# Altium schematic symbol library project_x_sch_library.SchLib: 37 symbols (part 1 of 2)
Pins are listed as number, name and electrical type; pins without a type are passive.

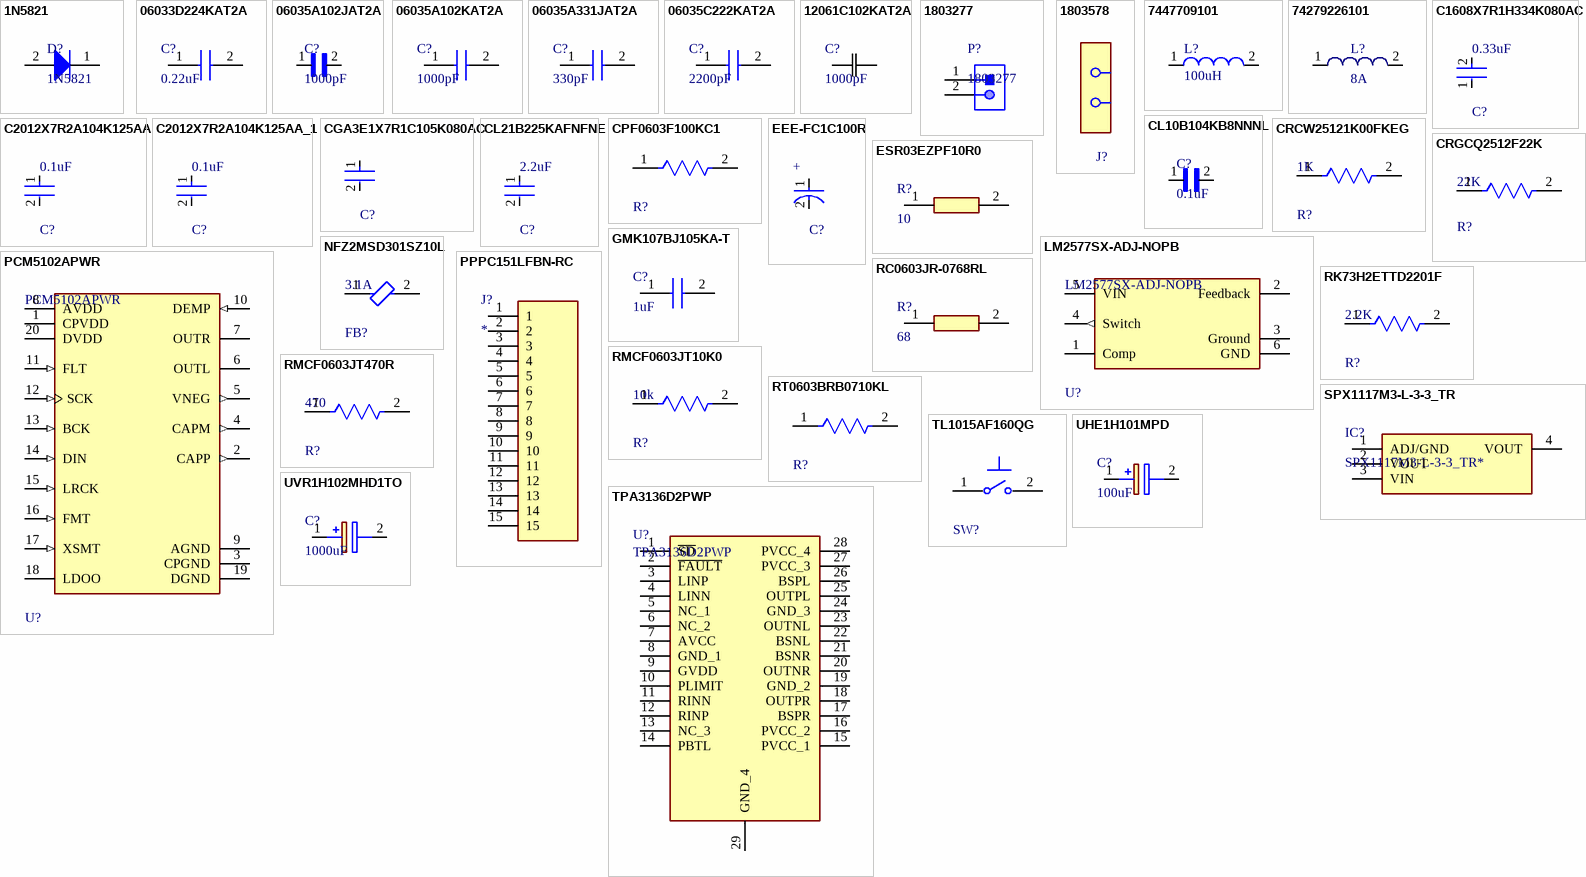
[diagram p0: symbols 1N5821 to UVR1H102MHD1TO]

## 1N5821
designator D?
Diode Schottky 30V 3A Through Hole DO-201AD; Manufacturer: On Semiconductor; Note1: 0; IFSM Max (A): 80; Packing: Bulk Bag; Configuration: Single; Max Reverse Current: 500uA; Max Surge Current: 80A; Forward Voltage: 500mV; Polarity: Standard; Capacitance: 190pF; Max Reverse Leakage Current: 2mA; ComponentLink1Description: Manufacturer URL; ComponentLink2Description: Datasheet; PartNumber: 1N5821; DatasheetVersion: Rev. 10; Mounting Technology: Through Hole; ComponentLink3URL: http://www.onsemi.com/pub_link/Collateral/267-05.PDF; ComponentLink3Description: Package Specification; ComponentLink1URL: http://www.onsemi.com/; PackageVersion: Rev. G, 06/2000; PackageDescription: 2-Pin, Axial Lead, Diameter 5.05 mm; ComponentLink2URL: http://www.onsemi.cn/pub_link/Collateral/1N5820-D.PDF; RoHS: FALSE; PackageReference: AXIAL_LEAD-2-267-05; Supplier 1: Digi-Key; Manufacturer Part Number: 1N5821; Category: Schottky Diodes; Stock 1: 982; Pricing 1: 1=0.63000, 10=0.53800, 100=0.40150, 500=0.31548 (USD); Mount: Through Hole; Case/Package: DO-201AD; Number of Pins: 2; Weight: 0.36g; Contact Plating: Tin,Matte; Min Operating Temperature: -65°C; Max Operating Temperature: 125°C; Packaging: Tape and Reel; Package Quantity: 1250; Average Rectified Current: 3A; Max Repetitive Reverse Voltage (Vrrm): 30V; Forward Current: 3A; Max Forward Surge Current (Ifsm): 80A; Peak Non-Repetitive Surge Current: 80A; Element Configuration: Single; Voltage Rating (DC): 30V; Current Rating: 3A; Output Current: 3A; Max Reverse Voltage (DC): 30V; Series: -; Diameter: 5.6mm; Length: 9.5mm; Width: 5.3mm; Height: 9.5mm; Radiation Hardening: No; RoHS Compliant: Yes; REACH SVHC: No SVHC; Lead Free: Lead Free; ComponentLink4URL: https://datasheet.ciiva.com/8302/1n5821-8302768.pdf?src-supplier=Avnet; ComponentLink4Description: https://datasheet.ciiva.com/8302/1n5821-8302768.pdf?src-supplier=Avnet; ComponentLink5URL: https://datasheet.ciiva.com/29592/1n5820-29592498.pdf?src-supplier=Digi-Key; ComponentLink5Description: https://datasheet.ciiva.com/29592/1n5820-29592498.pdf?src-supplier=Digi-Key; ComponentLink6URL: https://datasheet.ciiva.com/25951/1n5821-25951357.pdf?src-supplier=Avnet+Europe; ComponentLink6Description: https://datasheet.ciiva.com/25951/1n5821-25951357.pdf?src-supplier=Avnet+Europe; ComponentLink7URL: https://datasheet.ciiva.com/1177/107972-1177095.pdf?src-supplier=Element14; ComponentLink7Description: https://datasheet.ciiva.com/1177/107972-1177095.pdf?src-supplier=Element14; Supplier 2: Digi-Key; Stock 2: 378; Pricing 2: 1=0.63000, 10=0.53800, 100=0.40150 (USD); Supplier Part Number 1: 1990-1N5821CT-ND; Supplier Part Number 2: 1N5821FSCT-ND
footprint ONSC-AXIAL_LEAD-2-267-05_V (AXIAL, 2-Leads, Diameter 5.05mm)
pins: 1 K, 2 A

## 06033D224KAT2A
designator C?, comment 0.22uF
CAP CER 0.22UF 25V X5R 0603; Manufacturer_Name: AVX; Manufacturer_Part_Number: 06033D224KAT2A; Datasheet Link: http://docs-emea.rs-online.com/webdocs/0def/0900766b80def1a5.pdf; Height: 0.9mm; Mouser Part Number: 581-06033D224K; Mouser Price/Stock: https://www.mouser.co.uk/ProductDetail/AVX/06033D224KAT2A/?qs=yuhjMS%2FIYxbJrex57OiWTw%3D%3D; Arrow Part Number: 06033D224KAT2A; Arrow Price/Stock: https://www.arrow.com/en/products/06033d224kat2a/avx; Supplier 1: Digi-Key; Supplier 2: Digi-Key; Supplier Part Number 1: 478-1245-1-ND; Supplier Part Number 2: 478-1245-6-ND
footprint CAPC1608X90N
pins: 1, 2

## 06035A102JAT2A
designator C?, comment 1000pF
1000pF ±5% 50V Ceramic Capacitor C0G, NP0 0603 (1608 Metric); MP: 06035A102JAT2A; Package: None; Price: None; Value: *; Availability: Unavailable; Supplier 1: Digi-Key; Supplier 2: Digi-Key; Supplier 3: Digi-Key; Supplier 4: Newark; Supplier Part Number 3: 478-1187-2-ND; Supplier Part Number 4: 92C3552; Supplier Part Number 2: 478-1187-6-ND; Supplier Part Number 1: 478-1187-1-ND
footprint CAPC1608X90N
pins: 1, 2

## 06035A102KAT2A
designator C?, comment 1000pF
CAP CER 1000PF 50V C0G/NP0 0603; Manufacturer_Name: AVX; Manufacturer_Part_Number: 06035A102KAT2A; Datasheet Link: http://www.mouser.com/catalog/supplier/library/pdf/AVXSurfaceMountCeramic.pdf; Height: 0.9mm; Mouser Part Number: 581-06035A102KAT2A; Mouser Price/Stock: https://www.mouser.co.uk/ProductDetail/AVX/06035A102KAT2A/?qs=I5rfTV0A4wH27QeFGHRn6w%3D%3D; Arrow Part Number: 06035A102KAT2A; Arrow Price/Stock: https://www.arrow.com/en/products/06035a102kat2a/avx; Supplier 1: Digi-Key; Supplier Part Number 1: 478-3718-1-ND
footprint CAPC1608X90N
pins: 1, 2

## 06035A331JAT2A
designator C?, comment 330pF
CAP CER 330PF 50V C0G/NP0 0603; Manufacturer_Name: AVX; Manufacturer_Part_Number: 06035A331JAT2A; Datasheet Link: http://datasheets.avx.com/C0GNP0-Dielectric.pdf; Height: 0.9mm; Mouser Part Number: 581-06035A331J; Mouser Price/Stock: https://www.mouser.co.uk/ProductDetail/AVX/06035A331JAT2A?qs=nHLfGqofz%252BCe6DSmi7JEiw%3D%3D; Supplier 1: Digi-Key; Supplier Part Number 1: 478-1181-1-ND
footprint CAPC1608X90N
pins: 1, 2

## 06035C222KAT2A
designator C?, comment 2200pF
CAP CER 2200PF 50V X7R 0603; Manufacturer: Kyocera AVX; Manufacturer Part Number: 06035C222KAT2A; Dielectric Material: Ceramic; Capacitance: 2.2nF; Tolerance: 10%; Voltage: 25V; Dissipation Factor: 2.5%; Supplier 1: Digi-Key; RoHS: Yes; Category: Ceramic Capacitors; Stock 1: 123694; Pricing 1: 1=0.10000, 10=0.07000, 50=0.03800, 100=0.03100, 500=0.02214, 1000=0.01739 (USD); Mount: Surface Mount; Case/Package: 0603; Number of Pins: 2; Case Code (Metric): 1608; Case Code (Imperial): 0603; Contact Plating: Tin,Matte; Min Operating Temperature: -55°C; Max Operating Temperature: 125°C; Voltage Rating (DC): 50V; Packaging: Tape and Reel; Dielectric: X7R; Voltage Rating: 50V; Package Quantity: 1; Termination: SMD/SMT; Series: -; Construction: Flat; Length: 1.6mm; Width: 0.032inch; Height: 0.9mm; Depth: 0.81mm; Thickness: 0.035inch; Radiation Hardening: No; REACH SVHC: No SVHC; Lead Free: Lead Free; RoHS Compliant: Yes; ComponentLink1URL: https://datasheet.ciiva.com/11788/0900766b802d4698-11788065.pdf?src-supplier=RSComponents; ComponentLink1Description: https://datasheet.ciiva.com/11788/0900766b802d4698-11788065.pdf?src-supplier=RSComponents; ComponentLink2URL: https://datasheet.ciiva.com/160/cx7r-160968.pdf?src-supplier=Digi-Key; ComponentLink2Description: https://datasheet.ciiva.com/160/cx7r-160968.pdf?src-supplier=Digi-Key; ComponentLink3URL: https://datasheet.ciiva.com/160/cx7r-160969.pdf?src-supplier=Digi-Key; ComponentLink3Description: https://datasheet.ciiva.com/160/cx7r-160969.pdf?src-supplier=Digi-Key; ComponentLink4URL: https://datasheet.ciiva.com/160/cx7r-160970.pdf?src-supplier=Digi-Key; ComponentLink4Description: https://datasheet.ciiva.com/160/cx7r-160970.pdf?src-supplier=Digi-Key; ComponentLink5URL: https://datasheet.ciiva.com/5415/cx7r-218113-5415163.pdf?src-supplier=Mouser; ComponentLink5Description: https://datasheet.ciiva.com/5415/cx7r-218113-5415163.pdf?src-supplier=Mouser; ComponentLink6URL: https://datasheet.ciiva.com/2987/cx7r-2987841.pdf?src-supplier=Avnet; ComponentLink6Description: https://datasheet.ciiva.com/2987/cx7r-2987841.pdf?src-supplier=Avnet; ComponentLink7URL: https://datasheet.ciiva.com/28546/cx7r-28546597.pdf?src-supplier=Element14; ComponentLink7Description: https://datasheet.ciiva.com/28546/cx7r-28546597.pdf?src-supplier=Element14; ComponentLink8URL: https://datasheet.ciiva.com/1457/1679506-1457930.pdf?src-supplier=Element14; ComponentLink8Description: https://datasheet.ciiva.com/1457/1679506-1457930.pdf?src-supplier=Element14; ComponentLink9URL: https://datasheet.ciiva.com/1457/1679506-1457931.pdf?src-supplier=Element14; ComponentLink9Description: https://datasheet.ciiva.com/1457/1679506-1457931.pdf?src-supplier=Element14; Supplier Part Number 1: 478-1219-1-ND
footprint CAPC1608X90N
pins: 1, 2

## 12061C102KAT2A
designator C?, comment 1000pF
CAP CER 1000PF 100V X7R 1206; Manufacturer_Part_Number: 12061C102KAT2A; Vendor: AVX Corporation; Built_By: EMA_UL_Team; SourceLibrary: AVX_2015-1-12; Type: DEV; Copyright: Copyright (C) 2018 Accelerated Designs. All rights reserved; RefDes: RefDes; Supplier 1: Digi-Key; Supplier Part Number 1: 478-1517-1-ND
footprint CAPC3216X94N
pins: 1 11, 2 12

## 1803277
designator P?
Conn;  TermBlk;  PCB;  Header;  SnglLvl;  90DegAngl;  Sldr;  2Pole;  3.81mmPitch;  COMBICON; Manufacturer: Phoenix Contact; Tolerance: 5%; Elements: 4; Voltage Rating: 50 V; Case\Package: 1205; Resistance: 10 kohm; Power Rating: 248 mW; Max Current Rating: 8A; Number of Contacts: 2; Gender: Male; Number of Levels: 1; Voltage: 300V; Connector Type: Plug,PCB,Terminal Block; Voltage Rating (DC): 640mV; Voltage Rating (AC): 160V; Pitch: 3.81mm; Approvals: UL,CSA; RoHSCompliant: true; Min Operating Temperature: -55 degC; Case Code (Imperial): 1206; Width: 0.063 inch; Pins: 8; ComponentLink1Description: Manufacturer URL; ComponentLink2Description: Datasheet; DatasheetVersion: Feb-14; ComponentLink3URL: https://www.phoenixcontact.com/online/portal/us/pxc/product_detail_page/!ut/p/b1/3ZfJkqM4EIafpR6AQmA2H9n3fTNcCLbCgDGrDfjpp6pmYg4T012XDh-MLkihiC__TGUqBcdwBKEIwNDDAScAfILja3qvq3Sp-2t6-ZrHROIxHs9bKIGYNs4AmcNZXsMcRDJQOIRPAEvchpoUjx1UTZ38Zl8Xbz54zDr6CpsNzjayIR3; ComponentLink1URL: http://www.phoenixcontact.com/; ComponentLink2URL: https://datasheet.ciiva.com/16096/1803277-16096845.pdf; PackageReference: 1803277; ComponentLink3Description: Package Specification; Mount: Surface Mount; Length: 0.126 inch; REACH SVHC: No SVHC; Radiation Hardening: No; Max Operating Temperature: 125 degC; Package Quantity: 1; Height: 0.024 inch; Packaging: Cut Tape; PackageDescription: Male Header, Pitch 3.81 mm, 1 x 2 Position, Height 7.25 mm, Tail Length 3.4 mm; Case Code (Metric): 3216; PartNumber: 1803277; Supplier 1: Digi-Key; Supplier 2: Newark; Supplier 3: Allied Electronics; Supplier 4: Mouser; Supplier 5: Arrow Electronics; Supplier Part Number 1: 277-1206-ND; Supplier Part Number 2: 80R8083; Supplier Part Number 3: 70054540; Supplier Part Number 4: 651-1803277; Supplier Part Number 5: 1803277; Manufacturer Part Number: 1803277; RoHS: Yes; Category: Terminal Blocks; Stock 1: 15554; Pricing 1: 1=0.83000, 10=0.79400, 50=0.75900, 100=0.73830, 250=0.69000, 500=0.63480, 1000=0.58650, 2500=0.55890, 5000=0.52440 (USD); Contact Plating: Tin; Housing Color: Green; Housing Material: Polybutylene; Contact Material: Tin; Color: Green; Weight: 4oz; Number of Rows: 1; Termination: Solder; Orientation: Right Angle; Number of Poles: 2; Current Rating: 8A; Number of Positions Per Level: 2; Current: 8A; Number of Positions: 2; Series: MC; Contact Gender: Male; Depth: 9.2mm; Lead Free: Lead Free; RoHS Compliant: Yes; Flammability Rating: UL94 V-0; ComponentLink4URL: https://datasheet.ciiva.com/795/1803277-795413.pdf?src-supplier=Digi-Key; ComponentLink4Description: https://datasheet.ciiva.com/795/1803277-795413.pdf?src-supplier=Digi-Key; ComponentLink5URL: https://datasheet.ciiva.com/11746/0900766b80029ea6-11746612.pdf?src-supplier=RSComponents; ComponentLink5Description: https://datasheet.ciiva.com/11746/0900766b80029ea6-11746612.pdf?src-supplier=RSComponents; ComponentLink6URL: https://datasheet.ciiva.com/16096/1803277-16096845.pdf?src-supplier=Onlinecomponents.com; ComponentLink6Description: https://datasheet.ciiva.com/16096/1803277-16096845.pdf?src-supplier=Onlinecomponents.com; ComponentLink7URL: https://datasheet.ciiva.com/23596/1581611-23596276.pdf?src-supplier=Newark; ComponentLink7Description: https://datasheet.ciiva.com/23596/1581611-23596276.pdf?src-supplier=Newark; ComponentLink8URL: https://datasheet.ciiva.com/26840/getdatasheetpartid-233794-26840495.pdf?src-supplier=Verical; ComponentLink8Description: https://datasheet.ciiva.com/26840/getdatasheetpartid-233794-26840495.pdf?src-supplier=Verical; ComponentLink9URL: https://datasheet.ciiva.com/29212/740533-da-01-de-leiterplattenstecker-mc-1-5-2-g-3-81-29212066.pdf?src-supplier=Conrad; ComponentLink9Description: https://datasheet.ciiva.com/29212/740533-da-01-de-leiterplattenstecker-mc-1-5-2-g-3-81-29212066.pdf?src-supplier=Conrad
footprint PHOE-1803277_V (CONN, Body 9.2x9.01mm, Pitch 3.81mm)
pins: 1, 2

## 1803578
designator J?, comment Plug  (value not drawn)
MC 1 5/ 2-ST-3 81; Manufacturer: Phoenix Contact; Manufacturer Part Number: 1803578; Number of Positions: 2; Current Rating: 8A; Gender: Male; Voltage Rating (AC): 160V; Connector Type: Screw,Power,Rectangular; Number of Levels: 1; Voltage: 300V; Pitch: 3.81mm; Wire Gauge (Max): 30AWG; Wire Gauge (Min): 14AWG; Wire/Cable Gauge: 16AWG; Stripping Length: 7mm; Approvals: UL,CSA,VDE; Supplier 1: Digi-Key; Supplier 2: Newark; Supplier 3: Mouser; Supplier 4: Allied Electronics; Supplier 5: Arrow Electronics; Supplier Part Number 1: 277-1161-ND; Supplier Part Number 2: 71C4221; Supplier Part Number 3: 651-1803578; Supplier Part Number 4: 70054750; Supplier Part Number 5: 1803578; RoHS: Yes; Category: Terminal Blocks; Stock 1: 25508; Pricing 1: 1=2.40000, 10=2.30000, 50=2.20000, 100=2.14000, 250=2.00000, 500=1.84000, 1000=1.70001, 2500=1.62000, 5000=1.52000 (USD); Mount: Free Hanging,Cable; Contact Material: Tin; Contact Plating: Tin; Housing Color: Green; Housing Material: Polyamide; Color: Green; Weight: 3.456848oz; Insulation Material: Nylon; Package Quantity: 50; Packaging: Bulk; Termination: Screw; Orientation: Right Angle; Number of Poles: 2; Number of Rows: 1; Max Current Rating: 8A; Number of Contacts: 2; Series: MC; Voltage Rating: 160V; Number of Positions Per Level: 2; Current: 8A; Max Supply Voltage: 160V; Number of Circuits: 2; Voltage Rating (DC): 160V; Length: 8.41mm; Width: 16.1mm; Height: 11.1mm; Depth: 16.1mm; Radiation Hardening: No; Lead Free: Lead Free; REACH SVHC: No SVHC; Flammability Rating: UL94 V-0; ComponentLink1URL: https://datasheet.ciiva.com/795/1803578-795460.pdf?src-supplier=Digi-Key; ComponentLink1Description: https://datasheet.ciiva.com/795/1803578-795460.pdf?src-supplier=Digi-Key; ComponentLink2URL: https://datasheet.ciiva.com/16046/1803578-16046760.pdf?src-supplier=Onlinecomponents.com; ComponentLink2Description: https://datasheet.ciiva.com/16046/1803578-16046760.pdf?src-supplier=Onlinecomponents.com; ComponentLink3URL: https://datasheet.ciiva.com/29224/740200-da-01-en-leiterplattenstecker-mc-1-5-2-st-3-81-29224613.pdf?src-supplier=Conrad; ComponentLink3Description: https://datasheet.ciiva.com/29224/740200-da-01-en-leiterplattenstecker-mc-1-5-2-st-3-81-29224613.pdf?src-supplier=Conrad
footprint Phoenix_Contact_0_MFG

## 7447709101
designator L?, comment 100uH
WURTH ELEKTRONIK - 7447709101 - Power Inductor (SMD), 100 µH, 2.5 A, Shielded, 3.1 A, WE-PD Series, 12mm x 12mm x 10mm; Manufacturer: Wurth Electronics; Inductance: 100 ÂµH; Core Material: Ferrite; Tolerance: 20%; Self Resonant Frequency: 6MHz; Current Rating: 2.5A; Saturation Current: 3.1A; Resistance: 110mR; Test Frequency: 1kHz; Impedance: 100mR; ComponentLink1Description: Manufacturer Link; ComponentLink2Description: Datasheet; DatasheetVersion: ver 1, Oct-2004; ComponentLink1URL: http://www.we-online.com; PackageVersion: 2004; PackageDescription: SMD Inductor, 2-Leads, Body 12.0 x 12.0 mm; ComponentLink2URL: http://www.we-online.de/katalog/media/pdf/7447709101.pdf; PackageReference: WE-PD-XXL; PartNumber: 7447709101; Supplier 1: Digi-Key; Manufacturer Part Number: 7447709101; RoHS: Yes; Category: Fixed Inductors; Stock 1: 22437; Pricing 1: 1=2.41000, 10=2.20000, 50=2.07000, 100=1.94000 (USD); Mount: Surface Mount; Case/Package: Nonstandard; Number of Pins: 2; Weight: 0.01lb; Case Code (Metric): 3225; Case Code (Imperial): 1210; Min Operating Temperature: -40°C; Max Operating Temperature: 125°C; Inductance Tolerance: 20%; Packaging: Tape and Reel; Shielding: Shielded; Package Quantity: 250; Max DC Current: 2.5A; DC Resistance (DCR): 110mR; Termination: SMD/SMT; Resistor Type: Wirewound; DC Current: 2.5A; RMS Current (Irms): 2.5A; Series Resistance: 110mR; Series: WE-PD; Inductor Type: POWER; Length: 12mm; Width: 12mm; Height: 10mm; Height - Seated (Max): 0.394inch; Depth: 12.5mm; Size: 10mm; REACH SVHC: Unknown; Military Standard: Not; RoHS Compliant: Yes; Lead Free: Lead Free; ComponentLink3URL: https://datasheet.ciiva.com/4954/7447709101-44073-4954756.pdf?src-supplier=Mouser; ComponentLink3Description: https://datasheet.ciiva.com/4954/7447709101-44073-4954756.pdf?src-supplier=Mouser; ComponentLink4URL: https://datasheet.ciiva.com/22709/1736294-22709761.pdf?src-supplier=Element14; ComponentLink4Description: https://datasheet.ciiva.com/22709/1736294-22709761.pdf?src-supplier=Element14; ComponentLink5URL: https://datasheet.ciiva.com/11800/0900766b8079f802-11800213.pdf?src-supplier=RSComponents; ComponentLink5Description: https://datasheet.ciiva.com/11800/0900766b8079f802-11800213.pdf?src-supplier=RSComponents; ComponentLink6URL: https://datasheet.ciiva.com/6983/7447709101-6983170.pdf?src-supplier=Newark; ComponentLink6Description: https://datasheet.ciiva.com/6983/7447709101-6983170.pdf?src-supplier=Newark; ComponentLink7URL: https://datasheet.ciiva.com/1052/7447709101-1052454.pdf?src-supplier=Digi-Key; ComponentLink7Description: https://datasheet.ciiva.com/1052/7447709101-1052454.pdf?src-supplier=Digi-Key; ComponentLink8URL: https://datasheet.ciiva.com/7754/1736294-7754651.pdf?src-supplier=Element14; ComponentLink8Description: https://datasheet.ciiva.com/7754/1736294-7754651.pdf?src-supplier=Element14; Supplier Part Number 1: 732-1248-1-ND
footprint WE-PD-XXL (SMD Inductor, 2-Leads, Body 12.0 x 12.0 mm)
pins: 1, 2

## 74279226101
designator L?, comment 8A
100 Ohms @ 100MHz 1  Ferrite Bead 1812 (4532 Metric) 8A 6mOhm; PartNumber: 74279226101; Manufacturer: Wuerth Elektronik; Impedance: 100 Ohm; ComponentLink1Description: Manufacturer URL; ComponentLink2Description: Datasheet; ComponentLink1URL: http://www.we-online.com; ComponentLink2URL: http://katalog.we-online.com/pbs/datasheet/74279226101.pdf; PackageReference: WE-MPSB-1812; Supplier 1: Digi-Key; Supplier 2: Digi-Key; Supplier 3: Newark; Supplier 4: Mouser; Supplier 5: RSComponents; Supplier Part Number 1: 732-3431-1-ND; Supplier Part Number 2: 732-3431-6-ND; Supplier Part Number 3: 74T0824; Supplier Part Number 4: 710-74279226101; Supplier Part Number 5: 7498328
footprint WE-MPSB-1812 (Chip Inductor, 2-Leads, Body 4.5x3.2mm, IPC Medium Density)
pins: 1, 2

## C1608X7R1H334K080AC
designator C?, comment 0.33uF
Cap Ceramic 0.33uF 50V X7R 10% Pad SMD 0603 125°C Low ESR T/R; Manufacturer: TDK; Manufacturer Part Number: C1608X7R1H334K080AC; Capacitance: 330nF; Supplier 1: Digi-Key; RoHS: Yes; Category: Ceramic Capacitors; Stock 1: 247635; Pricing 1: 1=0.25000, 10=0.17200, 50=0.11500, 100=0.09780, 500=0.06900, 1000=0.06038 (USD); Mount: Surface Mount; Case/Package: 0603; Case Code (Metric): 1608; Case Code (Imperial): 0603; Dielectric Material: Ceramic; Weight: 7.1E-05oz; Min Operating Temperature: -55°C; Max Operating Temperature: 125°C; Tolerance: 10%; Voltage Rating: 50V; Packaging: Tape and Reel; Voltage Rating (DC): 50V; Dielectric: X7R; Termination: SMD/SMT; Construction: Flat; Package Quantity: 1; Resistor Type: Ceramic; Voltage: 50V; Series: C; Length: 1.6mm; Width: 0.031inch; Height: 0.8mm; Depth: 0.8mm; Thickness: 0.037inch; Lead Free: Lead Free; RoHS Compliant: Yes; REACH SVHC: No SVHC; ComponentLink1URL: https://datasheet.ciiva.com/6290/tdkmlcccaprange-6290782.pdf?src-supplier=Digi-Key; ComponentLink1Description: https://datasheet.ciiva.com/6290/tdkmlcccaprange-6290782.pdf?src-supplier=Digi-Key; ComponentLink2URL: https://datasheet.ciiva.com/6290/tdkmlcccaprange-6290791.pdf?src-supplier=Digi-Key; ComponentLink2Description: https://datasheet.ciiva.com/6290/tdkmlcccaprange-6290791.pdf?src-supplier=Digi-Key; ComponentLink3URL: https://datasheet.ciiva.com/22718/1796654-22718021.pdf?src-supplier=Element14; ComponentLink3Description: https://datasheet.ciiva.com/22718/1796654-22718021.pdf?src-supplier=Element14; ComponentLink4URL: https://datasheet.ciiva.com/16427/general-b11-16427753.pdf?src-supplier=Future+Electronics; ComponentLink4Description: https://datasheet.ciiva.com/16427/general-b11-16427753.pdf?src-supplier=Future+Electronics; ComponentLink5URL: https://datasheet.ciiva.com/23803/1735394-23803004.pdf?src-supplier=Newark; ComponentLink5Description: https://datasheet.ciiva.com/23803/1735394-23803004.pdf?src-supplier=Newark; ComponentLink6URL: https://datasheet.ciiva.com/28451/1796654-28451356.pdf?src-supplier=Element14; ComponentLink6Description: https://datasheet.ciiva.com/28451/1796654-28451356.pdf?src-supplier=Element14; Supplier 2: Digi-Key; Stock 2: 247635; Pricing 2: 1=0.25000, 10=0.17200, 50=0.11500, 100=0.09780, 500=0.06900, 1000=0.06038 (USD); Supplier Part Number 1: 445-5950-1-ND; Supplier Part Number 2: 445-5950-6-ND
footprint TDK_C1608-080-0_1_IPC_B
pins: 1, 2

## C2012X7R2A104K125AA
designator C?, comment 0.1uF
C Series 0805 0.1 uF 100 V ±10 % Tolerance X7R SMT Multilayer Ceramic Capacitor; Manufacturer: TDK; Manufacturer Part Number: C2012X7R2A104K; Capacitance: 100nF; Tolerance: 10%; Voltage Rating: 100V; Supplier 1: Digi-Key; RoHS: Yes; Category: Ceramic Capacitors; Stock 1: 559939; Pricing 1: 1=0.19000, 10=0.12900, 50=0.07760, 100=0.06560, 500=0.04484, 1000=0.03968 (USD); Mount: Surface Mount; Case/Package: 0805; Number of Pins: 2; Case Code (Imperial): 0805; Case Code (Metric): 2012; Min Operating Temperature: -55°C; Max Operating Temperature: 125°C; Packaging: Tape and Reel; Package Quantity: 2000; Dielectric: X7R; Termination: SMD/SMT; Construction: Flat; Length: 2mm; Depth: 1.25mm; Radiation Hardening: No; REACH SVHC: No SVHC; ComponentLink1URL: https://datasheet.ciiva.com/3777/351print-detail-pdf-phplangenpart-noc2012x7r2a104k125aaimp-unit-xmhz-3777221.pdf?src-supplier=Arrow+Electronics; ComponentLink1Description: https://datasheet.ciiva.com/3777/351print-detail-pdf-phplangenpart-noc2012x7r2a104k125aaimp-unit-xmhz-3777221.pdf?src-supplier=Arrow+Electronics; ComponentLink2URL: https://datasheet.ciiva.com/15192/getdatasheetpartid-149415-15192179.pdf?src-supplier=Verical; ComponentLink2Description: https://datasheet.ciiva.com/15192/getdatasheetpartid-149415-15192179.pdf?src-supplier=Verical; ComponentLink3URL: https://datasheet.ciiva.com/15918/517print-detail-pdf-phplangenpart-noc2012x7r2a104k125aaimp-unit-xmhz-15918629.pdf?src-supplier=Onlinecomponents.com; ComponentLink3Description: https://datasheet.ciiva.com/15918/517print-detail-pdf-phplangenpart-noc2012x7r2a104k125aaimp-unit-xmhz-15918629.pdf?src-supplier=Onlinecomponents.com; Supplier Part Number 1: 445-1418-1-ND
footprint TDK_C2012-125-0_2_IPC_A
pins: 1, 2

## C2012X7R2A104K125AA_1
designator C?, comment 0.1uF
C Series 0805 0.1 uF 100 V ±10 % Tolerance X7R SMT Multilayer Ceramic Capacitor; Manufacturer: TDK; Manufacturer Part Number: C2012X7R2A104K; Capacitance: 100nF; Tolerance: 10%; Voltage Rating: 100V; Supplier 1: Digi-Key; RoHS: Yes; Category: Ceramic Capacitors; Stock 1: 150680; Pricing 1: 1=0.19000, 10=0.12900, 50=0.07760, 100=0.06560, 500=0.04484, 1000=0.03968 (USD); Mount: Surface Mount; Case/Package: 0805; Number of Pins: 2; Case Code (Imperial): 0805; Case Code (Metric): 2012; Min Operating Temperature: -55°C; Max Operating Temperature: 125°C; Dielectric: X7R; Termination: SMD/SMT; Packaging: Tape and Reel; Package Quantity: 2000; Construction: Flat; Length: 2mm; Depth: 1.25mm; Radiation Hardening: No; REACH SVHC: No SVHC; ComponentLink1URL: https://datasheet.ciiva.com/3777/351print-detail-pdf-phplangenpart-noc2012x7r2a104k125aaimp-unit-xmhz-3777221.pdf?src-supplier=Arrow+Electronics; ComponentLink1Description: https://datasheet.ciiva.com/3777/351print-detail-pdf-phplangenpart-noc2012x7r2a104k125aaimp-unit-xmhz-3777221.pdf?src-supplier=Arrow+Electronics; ComponentLink2URL: https://datasheet.ciiva.com/15192/getdatasheetpartid-149415-15192179.pdf?src-supplier=Verical; ComponentLink2Description: https://datasheet.ciiva.com/15192/getdatasheetpartid-149415-15192179.pdf?src-supplier=Verical; ComponentLink3URL: https://datasheet.ciiva.com/15918/517print-detail-pdf-phplangenpart-noc2012x7r2a104k125aaimp-unit-xmhz-15918629.pdf?src-supplier=Onlinecomponents.com; ComponentLink3Description: https://datasheet.ciiva.com/15918/517print-detail-pdf-phplangenpart-noc2012x7r2a104k125aaimp-unit-xmhz-15918629.pdf?src-supplier=Onlinecomponents.com; Supplier Part Number 1: 445-1418-1-ND
footprint TDK_C2012-125-0_2_IPC_A
pins: 1, 2

## CGA3E1X7R1C105K080AC
designator C?, comment 1uF  (value not drawn)
1µF ±10% 16V Ceramic Capacitor X7R 0603 (1608 Metric); Supplier 1: Digi-Key; Supplier 2: Digi-Key; Supplier 3: Digi-Key; Supplier 4: Newark; Supplier 5: Future Electronics; Supplier Part Number 1: 445-12539-1-ND; Supplier Part Number 2: 445-12539-6-ND; Supplier Part Number 3: 445-12539-2-ND; Supplier Part Number 4: 78Y9849; Supplier Part Number 5: 9066947
footprint TDK_CGA3E-0_3-0_1_IPC_A
pins: 1, 2

## CL10B104KB8NNNL
designator C?, comment 0.1uF
CAP CER 0.1UF 50V X7R 0603; MP: CL10B104KB8NNNL; MF: Samsung Electro-Mechanics; SnapEDA_Link: https://www.snapeda.com/parts/CL10B104KB8NNNL/Samsung%20Electro-Mechanics/view-part/3598555/?ref=snap; Availability: Unavailable; Package: 0603 Samsung; Value: *; Price: None; Supplier 1: Digi-Key; Supplier 2: Digi-Key; Supplier 3: Digi-Key; Supplier 4: Arrow Electronics; Supplier Part Number 1: 1276-CL10B104KB8NNNLCT-ND; Supplier Part Number 2: 1276-CL10B104KB8NNNLDKR-ND; Supplier Part Number 3: 1276-CL10B104KB8NNNLTR-ND; Supplier Part Number 4: CL10B104KB8NNNL
footprint CAPC1608X90N
pins: 1, 2

## CL21B225KAFNFNE
designator C?, comment 2.2uF
CAP CER 2.2UF 25V X7R 0805; Manufacturer: Samsung; Manufacturer Part Number: CL21B225KAFNFNE; Tolerance: 10%; Supplier 1: Digi-Key; RoHS: Yes; Category: Ceramic Capacitors; Stock 1: 369523; Pricing 1: 1=0.22000, 10=0.15700, 50=0.08920, 100=0.07390, 500=0.05180, 1000=0.04289 (USD); Mount: Surface Mount; Case/Package: 0805; Case Code (Metric): 2012; Case Code (Imperial): 0805; Min Operating Temperature: -55°C; Max Operating Temperature: 125°C; Package Quantity: 1; Packaging: Tape and Reel; Capacitance: 2.2uF; Voltage Rating: 25V; Dielectric: X7R; Series: CL; Construction: Flat; Length: 0.079inch; Width: 0.049inch; Height: 1.25mm; Thickness: 0.053inch; Depth: 1.25mm; Radiation Hardening: No; Lead Free: Lead Free; RoHS Compliant: Yes; ComponentLink1URL: https://datasheet.ciiva.com/25798/cl21b225kafnfne-25798721.pdf?src-supplier=Digi-Key; ComponentLink1Description: https://datasheet.ciiva.com/25798/cl21b225kafnfne-25798721.pdf?src-supplier=Digi-Key; Supplier Part Number 1: 1276-2953-1-ND
footprint Samsung_CL21_IPC_A
pins: 1, 2

## CPF0603F100KC1
designator R?, comment 100K  (value not drawn)
100 kOhms ±1% 0.063W, 1/16W Chip Resistor 0603 (1608 Metric)  Thin Film; Supplier 1: Digi-Key; Supplier 2: Digi-Key; Supplier 3: Newark; Supplier 4: Newark; Supplier 5: Newark; Supplier 6: Arrow Electronics; Supplier 7: Future Electronics; Supplier Part Number 1: A102199CT-ND; Supplier Part Number 2: A102199DKR-ND; Supplier Part Number 3: 36AC5509; Supplier Part Number 4: 76AH1709; Supplier Part Number 5: 73M9673; Supplier Part Number 6: CPF0603F100KC1; Supplier Part Number 7: 9093920
footprint TE_Connectivity_CPF0603_IPC_A
pins: 1, 2

## CRCW25121K00FKEG
designator R?, comment 1K
Thick Film Surface Mnt Resistor 2512 Case 1kOhm +/-1% 1W +/-100ppm/degC; Manufacturer: Vishay Dale; Manufacturer Part Number: CRCW25121K00FKEG; Resistance: 1kR; Tolerance: 1%; Temperature Coefficient: 100ppm/°C; Voltage Rating: 500V; Supplier 1: Digi-Key; RoHS: Yes; Category: Chip SMD Resistors; Stock 1: 105568; Pricing 1: 1=0.39000, 10=0.33200, 100=0.12980, 1000=0.05434 (USD); Mount: Surface Mount; Case/Package: 2512; Number of Pins: 2; Contact Plating: Tin; Weight: 0.001429oz; Case Code (Imperial): 2512; Case Code (Metric): 6432; Size Code: 2512; Min Operating Temperature: -55°C; Max Operating Temperature: 155°C; Power Rating: 1W; Resistor Type: Thick Film; Packaging: Tape and Reel; Package Quantity: 10; Number of Terminations: 2; Termination: SMD/SMT; Max Power Dissipation: 1W; Voltage Rating (DC): 500V; Features: Automotive AEC-Q200; Series: CRCW; Resistance Tolerance: 1%; Construction: Rectangular; Technology: THICK FILM; Length: 6.3mm; Width: 3.15mm; Height: 0.6mm; Depth: 3.15mm; Radiation Hardening: No; REACH SVHC: Unknown; Military Standard: Not; Lead Free: Lead Free; RoHS Compliant: Yes; ComponentLink1URL: https://datasheet.ciiva.com/11812/0900766b80d98bd1-11812831.pdf?src-supplier=RSComponents; ComponentLink1Description: https://datasheet.ciiva.com/11812/0900766b80d98bd1-11812831.pdf?src-supplier=RSComponents; ComponentLink2URL: https://datasheet.ciiva.com/2500/dcrcwe3-2500463.pdf?src-supplier=Digi-Key; ComponentLink2Description: https://datasheet.ciiva.com/2500/dcrcwe3-2500463.pdf?src-supplier=Digi-Key; ComponentLink3URL: https://datasheet.ciiva.com/2500/dcrcwe3-2500461.pdf?src-supplier=Digi-Key; ComponentLink3Description: https://datasheet.ciiva.com/2500/dcrcwe3-2500461.pdf?src-supplier=Digi-Key; ComponentLink4URL: https://datasheet.ciiva.com/2500/dcrcwe3-2500462.pdf?src-supplier=Digi-Key; ComponentLink4Description: https://datasheet.ciiva.com/2500/dcrcwe3-2500462.pdf?src-supplier=Digi-Key; ComponentLink5URL: https://datasheet.ciiva.com/9109/dcrcwe3-9109959.pdf?src-supplier=Avnet; ComponentLink5Description: https://datasheet.ciiva.com/9109/dcrcwe3-9109959.pdf?src-supplier=Avnet; ComponentLink6URL: https://datasheet.ciiva.com/9109/dcrcwe3-9109961.pdf?src-supplier=Avnet; ComponentLink6Description: https://datasheet.ciiva.com/9109/dcrcwe3-9109961.pdf?src-supplier=Avnet; ComponentLink7URL: https://datasheet.ciiva.com/5548/dcrcwe3-109170-5548217.pdf?src-supplier=Mouser; ComponentLink7Description: https://datasheet.ciiva.com/5548/dcrcwe3-109170-5548217.pdf?src-supplier=Mouser; ComponentLink8URL: https://datasheet.ciiva.com/17204/dcrcwe3-17204422.pdf?src-supplier=Avnet+Europe; ComponentLink8Description: https://datasheet.ciiva.com/17204/dcrcwe3-17204422.pdf?src-supplier=Avnet+Europe; Supplier Part Number 1: 541-1.00KAFCT-ND
footprint Vishay_CRCW2512-e3_IPC_A
pins: 1, 2

## CRGCQ2512F22K
designator R?, comment 22K
22 kOhms ±1% 1W Chip Resistor 2512 (6432 Metric) Automotive AEC-Q200, Moisture Resistant Thick Film; Manufacturer: TE Connectivity; Manufacturer Part Number: CRGCQ2512F22K; Supplier 1: Digi-Key; RoHS: Yes; Stock 1: 33852; Pricing 1: 1=0.46000, 10=0.35000, 100=0.14710, 1000=0.08118 (USD); RoHS Compliant: Yes; Supplier Part Number 1: A130009CT-ND
footprint TE_Connectivity_CRGCQ2512_IPC_A
pins: 1, 2

## EEE-FC1C100R
designator C?, comment 10uF  (value not drawn)
Cap Aluminum 10uF 16V 20% (4 X 5.4mm) SMD 60mA 1000 hr 105C T/R; Part Number: EEE-1CA100SR; Manufacturer: Panasonic; Manufacturer Part Number: EEE-FC1C100R; Value: 10.0µF; Material: Aluminium; Ripple Current (AC): 50mA; Impedance: 3R; Life (Hours): 1000Hour; Leakage Current: 3uA; Lead Length: 1.8mm; helpURL: https://upverter.com/upn/revision/35123ac30fb7e617/; Temperature: -40°C to +85°C; Package: CAP_SMT_4MM3_4MM3; Supplier 2: Mouser; Price: 0.105580265411; Supplier 1: Digi-Key; Supplier Part Number 2: 667-EEE-1CA100SR; Supplier Part Number 1: PCE3878CT-ND; RoHS: TRUE; Mouser Part Number: 667-EEE-1CA100SR; Tolerance: ±20%; Temperature Range High: +85°C; Digikey Description: CAP 10µF 16V Aluminum Capacitors Radial, Can - SMD 2000 Hrs @ 85°C; Digikey Part Number: PCE3878CT-ND; Lead Free: yes; Temperature Range Low: -40°C; Mounting Type: Surface Mount; Capacitance: 10.0µF; Voltage: 16V; Supplier 3: Digi-Key; Category: Aluminum Electrolytic Capacitors; Stock 3: 93767; Pricing 3: 1=0.33000, 10=0.23100, 50=0.16180, 100=0.13870, 500=0.10402, 1000=0.08784 (USD); Mount: Surface Mount,PCB; Case/Package: Radial; Number of Pins: 2; Contact Plating: Tin; Dielectric Material: Aluminium; Min Operating Temperature: -40°C; Max Operating Temperature: 105°C; Voltage Rating: 16V; Packaging: Tape and Reel; Voltage Rating (DC): 16V; ESR (Equivalent Series Resistance): 3R; Ripple Current: 60mA; Package Quantity: 1; Termination: SMD/SMT; Series: FC; Construction: Cylindrical; Diameter: 4mm; Length: 5.5mm; Width: 4.3mm; Height: 5.4mm; Height - Seated (Max): 0.213inch; Lead Pitch: 1mm; Radiation Hardening: No; REACH SVHC: No SVHC; RoHS Compliant: Yes; ComponentLink1URL: https://datasheet.ciiva.com/11779/0900766b806bc525-11779699.pdf?src-supplier=RSComponents; ComponentLink1Description: https://datasheet.ciiva.com/11779/0900766b806bc525-11779699.pdf?src-supplier=RSComponents; ComponentLink2URL: https://datasheet.ciiva.com/29313/443516-da-01-en-smd-elko-vfc-b-10-uf-16v-29313714.pdf?src-supplier=Conrad; ComponentLink2Description: https://datasheet.ciiva.com/29313/443516-da-01-en-smd-elko-vfc-b-10-uf-16v-29313714.pdf?src-supplier=Conrad; ComponentLink3URL: https://datasheet.ciiva.com/2985/aba0000ce5-2985278.pdf?src-supplier=Avnet; ComponentLink3Description: https://datasheet.ciiva.com/2985/aba0000ce5-2985278.pdf?src-supplier=Avnet; ComponentLink4URL: https://datasheet.ciiva.com/2985/aba0000ce5-2985279.pdf?src-supplier=Avnet; ComponentLink4Description: https://datasheet.ciiva.com/2985/aba0000ce5-2985279.pdf?src-supplier=Avnet; ComponentLink5URL: https://datasheet.ciiva.com/28694/31718-28694775.pdf?src-supplier=Element14; ComponentLink5Description: https://datasheet.ciiva.com/28694/31718-28694775.pdf?src-supplier=Element14; ComponentLink6URL: https://datasheet.ciiva.com/46388/31718-46388204.pdf?src-supplier=Element14; ComponentLink6Description: https://datasheet.ciiva.com/46388/31718-46388204.pdf?src-supplier=Element14; ComponentLink7URL: https://datasheet.ciiva.com/16508/aba0000ce5-16508393.pdf?src-supplier=Future+Electronics; ComponentLink7Description: https://datasheet.ciiva.com/16508/aba0000ce5-16508393.pdf?src-supplier=Future+Electronics; ComponentLink8URL: https://datasheet.ciiva.com/17353/aba0000ce5-17353355.pdf?src-supplier=Avnet+Europe; ComponentLink8Description: https://datasheet.ciiva.com/17353/aba0000ce5-17353355.pdf?src-supplier=Avnet+Europe; ComponentLink9URL: https://datasheet.ciiva.com/48542/eeefc-series-eng-tds-48542826.pdf?src-supplier=Distrelec; ComponentLink9Description: https://datasheet.ciiva.com/48542/eeefc-series-eng-tds-48542826.pdf?src-supplier=Distrelec; Supplier Part Number 3: PCE3995CT-ND
footprint Panasonic_EEE-1CA100SR_0
pins: 1 A, 2 C
text: +

## ESR03EZPF10R0
designator R?, comment 10
RES SMD 10 OHM 1% 1/4W 0603; Manufacturer_Name: ROHM Semiconductor; Manufacturer_Part_Number: ESR03EZPF10R0; Datasheet Link: https://componentsearchengine.com/Datasheets/2/ESR03EZPF10R0.pdf; Height: 0.55mm; Mouser Part Number: 755-ESR03EZPF10R0; Mouser Price/Stock: https://www.mouser.co.uk/ProductDetail/ROHM-Semiconductor/ESR03EZPF10R0?qs=DyUWGjl%252BcVsZb0vCjbe8PA%3D%3D; Supplier 1: Digi-Key; Supplier Part Number 1: RHM10.0ADCT-ND
footprint RESC1608X55N
pins: 1, 2

## GMK107BJ105KA-T
designator C?, comment 1uF
CAP CER 1UF 35V X5R 0603; Manufacturer_Name: TAIYO YUDEN; Manufacturer_Part_Number: GMK107BJ105KA-T; Datasheet Link: http://ds.yuden.co.jp/TYCOMPAS/ut/detail.do?productNo=GMK107BJ105KA-T&fileName=GMK107BJ105KA-T_SS&mode=specSheetDownload; Height: 0.9mm; Mouser Part Number: 963-GMK107BJ105KA-T; Mouser Price/Stock: https://www.mouser.co.uk/ProductDetail/Taiyo-Yuden/GMK107BJ105KA-T?qs=I6KAKw0tg2ykHAqS8PSP9Q%3D%3D; Supplier 1: Digi-Key; Supplier Part Number 1: 587-1437-1-ND
footprint CAPC1608X90N
pins: 1, 2

## LM2577SX-ADJ-NOPB
designator U?
Conv DC-DC 3.5V to 40V Step Up Single-Out 11.6V to 12.4V 3A 6-Pin(5+Tab) TO-263 T/R; Manufacturer: TI National Semiconductor; Manufacturer Part Number: LM2577SX-ADJ/NOPB; Efficiency: 80%; Number of Outputs: 1; Switching Frequency: 56kHz; Min Output Voltage: 1.23V; Max Output Voltage: 15V; Synchronous Rectifier: No; Quiescent Current: 10mA; Topology: Boost,Flyback,Forward Converter; Output Type: Adjustable; Supplier 1: Digi-Key; RoHS: Yes; Category: Voltage Regulators - Switching; Stock 1: 2473; Pricing 1: 1=7.97000, 10=7.20400, 25=6.86880, 100=5.96420, 250=5.69612 (USD); Mount: Surface Mount; Case/Package: TO-263; Number of Pins: 5; Contact Plating: Tin,Matte; Min Operating Temperature: -40°C; Max Operating Temperature: 125°C; Packaging: Tape and Reel; Min Input Voltage: 3.5V; Output Current: 3A; Output Voltage: 12.4V; Max Output Current: 3A; Max Input Voltage: 40V; Package Quantity: 500; Min Supply Voltage: 3.5V; Operating Supply Voltage: 40V; Series: SIMPLE SWITCHER®; Radiation Hardening: No; Lead Free: Contains Lead; RoHS Compliant: Yes; ComponentLink1URL: https://datasheet.ciiva.com/15113/getdatasheetpartid-139819-15113073.pdf?src-supplier=Verical; ComponentLink1Description: https://datasheet.ciiva.com/15113/getdatasheetpartid-139819-15113073.pdf?src-supplier=Verical; ComponentLink2URL: https://datasheet.ciiva.com/41457/001013751-da-01-en-ic-reg-mu-lm2577sx-adj-nopb-to-263-5-tid-41457623.pdf?src-supplier=Conrad; ComponentLink2Description: https://datasheet.ciiva.com/41457/001013751-da-01-en-ic-reg-mu-lm2577sx-adj-nopb-to-263-5-tid-41457623.pdf?src-supplier=Conrad; ComponentLink3URL: https://datasheet.ciiva.com/6603/lm1577-6603353.pdf?src-supplier=Digi-Key; ComponentLink3Description: https://datasheet.ciiva.com/6603/lm1577-6603353.pdf?src-supplier=Digi-Key; ComponentLink4URL: https://datasheet.ciiva.com/6603/lm1577-6603355.pdf?src-supplier=Digi-Key; ComponentLink4Description: https://datasheet.ciiva.com/6603/lm1577-6603355.pdf?src-supplier=Digi-Key; Supplier 2: Digi-Key; Stock 2: 2473; Pricing 2: 1=7.97000, 10=7.20400, 25=6.86880, 100=5.96420, 250=5.69612 (USD); Supplier Part Number 1: LM2577SX-ADJ/NOPBCT-ND; Supplier Part Number 2: LM2577SX-ADJ/NOPBDKR-ND
footprint Texas_Instruments_KTT0005B_MFG
pins: 1 Comp, 2 Feedback, 3 Ground (power), 4 Switch (out), 5 VIN (power), 6 GND (power)

## NFZ2MSD301SZ10L
designator FB?, comment 3.1A
300 Ohms @ 100MHz 1  Ferrite Bead 0806 (2016 Metric) 3.8A 26mOhm; Supplier 1: Digi-Key; Supplier 2: Mouser; Supplier Part Number 2: 81-NFZ2MSD301SZ10L; Supplier Part Number 1: 490-NFZ2MSD301SZ10LCT-ND
footprint Murata_NFZ2MSD-d5_IPC_A
pins: 1, 2

## PCM5102APWR
designator U?
DAC 2-CH Segment 32-bit 20-Pin TSSOP T/R; Manufacturer: Texas Instruments; Number of DAC Channels: 2; Max Power Dissipation: 187mW; Interface: Serial,I2S; Resolution: 32b; Sampling Rate: 384KS/s; Signal to Noise Ratio (SNR): 112dB; Supply Type: Analog,Digital; Number of Bits: 32; Power Consumption: 59.4mW; Polarity: Unipolar; Max Supply Voltage: 3.6V; Operating Supply Voltage: 3.3V; Min Supply Voltage: 3V; Number of Analog Inputs: 0; Output Type: Voltage; Supplier 1: Digi-Key; Supplier 2: Mouser; Supplier 3: Digi-Key; Supplier 4: Digi-Key; Supplier 5: Arrow Electronics; Supplier Part Number 1: 296-36707-1-ND; Supplier Part Number 2: 595-PCM5102APWR; Supplier Part Number 3: 296-36707-6-ND; Supplier Part Number 4: 296-36707-2-ND; Supplier Part Number 5: PCM5102APWR; Manufacturer Part Number: PCM5102APWR; RoHS: Yes; Category: Digital to Analog Converters (DACs); Pricing 1: 1=5.03000, 10=4.51300, 25=4.26680, 100=3.69790, 250=3.50824, 500=3.14792, 1000=2.98763 (USD); Mount: Surface Mount; Case/Package: TSSOP; Number of Pins: 20; Contact Plating: Gold; Min Operating Temperature: -25°C; Max Operating Temperature: 85°C; Package Quantity: 2000; Packaging: Tape and Reel; Number of Converters: 2; Conversion Rate: 384KS/s; Number of Analog Outputs: 2; Series: DirectPath™; REACH SVHC: No SVHC; Lead Free: Lead Free; ComponentLink1URL: https://datasheet.ciiva.com/24021/slas859a-261040-24021907.pdf?src-supplier=Mouser; ComponentLink1Description: https://datasheet.ciiva.com/24021/slas859a-261040-24021907.pdf?src-supplier=Mouser; ComponentLink2URL: https://datasheet.ciiva.com/29648/pcm5102a-29648362.pdf?src-supplier=Digi-Key; ComponentLink2Description: https://datasheet.ciiva.com/29648/pcm5102a-29648362.pdf?src-supplier=Digi-Key; ComponentLink3URL: https://datasheet.ciiva.com/6673/pcm5102a-6673611.pdf?src-supplier=Digi-Key; ComponentLink3Description: https://datasheet.ciiva.com/6673/pcm5102a-6673611.pdf?src-supplier=Digi-Key
footprint Texas_Instruments_PW0020A_IPC_A
pins: 1 CPVDD (power), 2 CAPP (out), 3 CPGND (power), 4 CAPM (out), 5 VNEG (out), 6 OUTL, 7 OUTR, 8 AVDD (power), 9 AGND (power), 10 DEMP (in), 11 FLT (in), 12 SCK (in), 13 BCK (in), 14 DIN (in), 15 LRCK (in), 16 FMT (in), 17 XSMT (in), 18 LDOO (power), 19 DGND (power), 20 DVDD (power)

## PPPC151LFBN-RC
designator J?
CONN HEADER FMALE 15POS .1" GOLD; Manufacturer: Sullins; Manufacturer Part Number: PPPC151LFBN-RC; Number of Positions: 15; Pitch: 0.1inch; Supplier 1: Digi-Key; RoHS: Yes; Category: Connectors; Stock 1: 7808; Pricing 1: 1=1.02000, 10=0.89300, 80=0.77025, 440=0.63018, 1000=0.56016, 5000=0.49014, 10000=0.46680 (USD); Mount: Through Hole; Color: Black; Contact Plating: Gold; Contact Material: Bronze; Housing Material: Plastic; Package Quantity: 1000; Number of Rows: 1; Packaging: Bulk; Termination: Solder; Connector Type: Header; Contact Type: Female Socket; Length: 38.6mm; Width: 2.5mm; Height: 8.5mm; Lead Free: Lead Free; RoHS Compliant: Yes; ComponentLink1URL: https://media.digikey.com/pdf/Data%20Sheets/Sullins%20PDFs/Female_Headers.100_DS.pdf?src-supplier=Digi-Key; ComponentLink1Description: https://media.digikey.com/pdf/Data%20Sheets/Sullins%20PDFs/Female_Headers.100_DS.pdf?src-supplier=Digi-Key; Supplier Part Number 1: S7048-ND
footprint RHDR15W80P0X254_1X15_3860X254X870P
pins: 1, 2, 3, 4, 5, 6, 7, 8, 9, 10, 11, 12, 13, 14, 15

## RC0603JR-0768RL
designator R?, comment 68
RES SMD 68 OHM 5% 1/10W 0603; Manufacturer_Name: YAGEO (PHYCOMP); Manufacturer_Part_Number: RC0603JR-0768RL; Datasheet Link: http://www.yageo.com/documents/recent/PYu-RC0603_51_RoHS_L_v5.pdf; Height: 0.55mm; Mouser Part Number: 603-RC0603JR-0768RL; Mouser Price/Stock: https://www.mouser.com/Search/Refine.aspx?Keyword=603-RC0603JR-0768RL; Arrow Part Number: RC0603JR-0768RL; Arrow Price/Stock: https://www.arrow.com/en/products/rc0603jr-0768rl/yageo; Supplier 1: Digi-Key; Supplier 2: Digi-Key; Supplier Part Number 1: 311-68GRCT-ND; Supplier Part Number 2: 311-68GRDKR-ND
footprint RESC1608X55N - duplicate
pins: 1, 2

## RK73H2ETTD2201F
designator R?, comment 2.2K
Thick Film Resistors 1/2watts 2.2Kohms 1%; Manufacturer: KOA Speer; Manufacturer Part Number: RK73H2ETTD2201F; Resistance: 2.2kR; Power Rating: 500mW; Voltage Rating: 200V; Temperature Coefficient: 100ppm/°C; Supplier 1: Digi-Key; RoHS: Yes; Category: Chip SMD Resistors; Stock 1: 11900; Pricing 1: 1=0.21000, 10=0.17700, 100=0.06920, 1000=0.02898, 2500=0.02656 (USD); Case/Package: 1210; Case Code (Imperial): 1210; Case Code (Metric): 3225; Min Operating Temperature: -55°C; Max Operating Temperature: 155°C; Tolerance: 1%; Packaging: Tape and Reel; Package Quantity: 5000; Resistor Type: Thick Film; Termination: SMD/SMT; Series: RK73H; Construction: Rectangular; Length: 3.2mm; Width: 2.6mm; Height: 0.6mm; Depth: 2.6mm; Military Standard: Not; Lead Free: Lead Free; RoHS Compliant: Yes; ComponentLink1URL: https://datasheet.ciiva.com/5592/rk73h-5592280.pdf?src-supplier=Mouser; ComponentLink1Description: https://datasheet.ciiva.com/5592/rk73h-5592280.pdf?src-supplier=Mouser; Supplier 2: Digi-Key; Stock 2: 11900; Pricing 2: 1=0.21000, 10=0.17700, 100=0.06920, 1000=0.02898, 2500=0.02656 (USD); Supplier 3: RSComponents; Stock 3: 1; Pricing 3: 50=0.18500, 100=0.16000, 250=0.11200, 500=0.08600, 1250=0.08400 (USD); Supplier Part Number 1: 2019-RK73H2ETTD2201FCT-ND; Supplier Part Number 2: 2019-RK73H2ETTD2201FDKR-ND; Supplier Part Number 3: 1234408
footprint KOA_Speer_RK73H2E_IPC_A
pins: 1, 2

## RMCF0603JT10K0
designator R?, comment 10k
Res Thick Film 0603 10K Ohm 5% 1/10W ±100ppm/°C Molded SMD SMD Paper T/R; Manufacturer: Stackpole Electronics; Manufacturer Part Number: RMCF0603JT10K0; Power Rating: 100mW; Resistance: 10kR; Supplier 1: Digi-Key; RoHS: Yes; Category: Chip SMD Resistors; Stock 1: 737230; Pricing 1: 1=0.10000, 10=0.01500, 100=0.00610, 1000=0.00274, 2500=0.00238 (USD); Mount: Surface Mount; Case/Package: 0603; Case Code (Metric): 1608; Case Code (Imperial): 0603; Contact Plating: Tin,Matte; Size Code: 0603; Min Operating Temperature: -55°C; Max Operating Temperature: 155°C; Tolerance: 5%; Packaging: Tape and Reel; Resistor Type: Thick Film; Number of Terminations: 2; Max Power Dissipation: 100mW; Temperature Coefficient: 100ppm/°C; Features: Automotive AEC-Q200; Series: RMCF; Construction: Rectangular; Length: 1.55mm; Width: 0.031inch; Height: 0.022inch; Depth: 0.8mm; Radiation Hardening: No; Military Standard: Not; Lead Free: Lead Free; ComponentLink1URL: https://datasheet.ciiva.com/15193/getdatasheetpartid-364254-15193501.pdf?src-supplier=Verical; ComponentLink1Description: https://datasheet.ciiva.com/15193/getdatasheetpartid-364254-15193501.pdf?src-supplier=Verical; Supplier Part Number 1: RMCF0603JT10K0CT-ND
footprint Stackpole_Electronics_RMCF0603_IPC_A
pins: 1, 2

## RMCF0603JT470R
designator R?, comment 470
Res Thick Film 0603 470 Ohm 5% 0.1W(1/10W) ±200ppm/C Molded SMD Automotive T/R; Manufacturer: Stackpole Electronics; Manufacturer Part Number: RMCF0603JT470R; Resistance: 470R; Power Rating: 100mW; Temperature Coefficient: 100ppm/°C; Working Voltage: 75V; Supplier 1: Digi-Key; RoHS: Yes; Category: Chip SMD Resistors; Stock 1: 206871; Pricing 1: 1=0.10000, 10=0.01500, 100=0.00610, 1000=0.00274, 2500=0.00238 (USD); Mount: Surface Mount; Case/Package: 0603; Case Code (Metric): 1608; Case Code (Imperial): 0603; Contact Plating: Tin,Matte; Min Operating Temperature: -55°C; Max Operating Temperature: 155°C; Packaging: Tape and Reel; Tolerance: 5%; Package Quantity: 1; Resistor Type: Thick Film; Number of Terminations: 2; Max Power Dissipation: 100mW; Features: Automotive AEC-Q200; Series: RMCF; Technology: THICK FILM; Construction: Rectangular; Length: 1.55mm; Width: 0.031inch; Height: 0.022inch; Depth: 0.8mm; Radiation Hardening: No; Military Standard: Not; Lead Free: Lead Free; RoHS Compliant: Yes; ComponentLink1URL: https://datasheet.ciiva.com/15193/getdatasheetpartid-360691-15193516.pdf?src-supplier=Verical; ComponentLink1Description: https://datasheet.ciiva.com/15193/getdatasheetpartid-360691-15193516.pdf?src-supplier=Verical; Supplier 2: Digi-Key; Stock 2: 206871; Pricing 2: 1=0.10000, 10=0.01500, 100=0.00610, 1000=0.00274, 2500=0.00238 (USD); Supplier 3: Arrow Electronics; Stock 3: 1772197; Pricing 3: 5000=0.00470, 10000=0.00330, 25000=0.00190, 1=0.04130, 10=0.04100, 25=0.04080, 100=0.01620, 250=0.00920, 500=0.00520, 1000=0.00470 (USD); Supplier Part Number 1: RMCF0603JT470RCT-ND; Supplier Part Number 2: RMCF0603JT470RDKR-ND; Supplier Part Number 3: RMCF0603JT470R
footprint Stackpole_Electronics_RMCF0603_IPC_A
pins: 1, 2

## RT0603BRB0710KL
designator R?, comment 10K  (value not drawn)
RES SMD 10K OHM 0.1% 1/10W 0603; Supplier 1: Digi-Key; Supplier 2: Digi-Key; Supplier 3: Digi-Key; Supplier 4: Arrow Electronics; Supplier Part Number 1: YAG4438CT-ND; Supplier Part Number 2: YAG4438DKR-ND; Supplier Part Number 3: YAG4438TR-ND; Supplier Part Number 4: RT0603BRB0710KL
footprint Yageo_RT0603_IPC_A
pins: 1, 2

## SPX1117M3-L-3-3_TR
designator IC?, comment SPX1117M3-L-3-3_TR*
IC REG LINEAR 3.3V 800MA SOT223 LDO; Manufacturer_Name: MaxLinear; Manufacturer_Part_Number: SPX1117M3-L-3-3/TR; Datasheet Link: https://componentsearchengine.com/Datasheets/1/SPX1117M3-L-3-3_TR.pdf; Height: 1.8mm; Mouser Part Number: 701-SPX1117M3-L-33TR; Mouser Price/Stock: https://www.mouser.co.uk/ProductDetail/MaxLinear/SPX1117M3-L-3-3-TR?qs=S%2FCBhQS5rCofor8XCFP4ag%3D%3D; Arrow Part Number: SPX1117M3-L-3-3/TR; Arrow Price/Stock: https://www.arrow.com/en/products/spx1117m3-l-3-3tr/maxlinear-inc; Supplier 1: Digi-Key; Supplier Part Number 1: 1016-1848-1-ND
footprint SOT230P700X180-4N
pins: 1 ADJ/GND, 2 VOUT, 3 VIN, 4 VOUT

## TL1015AF160QG
designator SW?  (value not drawn)
SWITCH TACTILE SPST-NO 0.05A 12V; Supplier 1: Digi-Key; Supplier 2: Digi-Key; Supplier 3: Mouser; Supplier Part Number 1: EG4344CT-ND; Supplier Part Number 2: EG4344DKR-ND; Supplier Part Number 3: 612-TL1015AF
footprint E-Switch_0_MFG
pins: 1, 2

## TPA3136D2PWP
designator U?
IC AMP AUDIO 10W 28-HTSSOP; Manufacturer_Name: Texas Instruments; Manufacturer Part Number: TPA3136D2PWPR; Number of Channels: 2; Load Impedance: 8R; Datasheet Link: http://www.ti.com/lit/ds/symlink/tpa3136d2.pdf; Height: 1.2mm; Manufacturer_Part_Number: TPA3136D2PWP; Mouser Part Number: 595-TPA3136D2PWP; Mouser Price/Stock: https://www.mouser.com/Search/Refine.aspx?Keyword=595-TPA3136D2PWP; Arrow Part Number: TPA3136D2PWP; Arrow Price/Stock: https://www.arrow.com/en/products/tpa3136d2pwp/texas-instruments; Supplier 1: Digi-Key; Supplier Part Number 1: TPA3136D2PWP-ND; Supplier 2: Digi-Key; Manufacturer: Texas Instruments; RoHS: Yes; Category: Amplifiers - Audio; Stock 2: 1850; Pricing 2: 1=1.73000, 10=1.54800, 25=1.46920, 100=1.20680, 250=1.12812, 500=0.99692, 1000=0.82665 (USD); Number of Pins: 28; Min Operating Temperature: -40°C; Max Operating Temperature: 85°C; Packaging: Cut Tape; Output Power: 10W; Lead Free: Lead Free; RoHS Compliant: Yes; REACH SVHC: No SVHC; ComponentLink1URL: https://datasheet.ciiva.com/58669/tpa3136d2-58669116.pdf?src-supplier=Digi-Key; ComponentLink1Description: https://datasheet.ciiva.com/58669/tpa3136d2-58669116.pdf?src-supplier=Digi-Key; Supplier Part Number 2: 296-44601-1-ND
footprint SOP65P640X120-29N
pins: 1 ~{SD}, 2 ~{FAULT}, 3 LINP, 4 LINN, 5 NC_1, 6 NC_2, 7 AVCC, 8 GND_1, 9 GVDD, 10 PLIMIT, 11 RINN, 12 RINP, 13 NC_3, 14 PBTL, 15 PVCC_1, 16 PVCC_2, 17 BSPR, 18 OUTPR, 19 GND_2, 20 OUTNR, 21 BSNR, 22 BSNL, 23 OUTNL, 24 GND_3, 25 OUTPL, 26 BSPL, 27 PVCC_3, 28 PVCC_4, 29 GND_4